# EAGLE library part 687130 (library con-Wurth-6871)
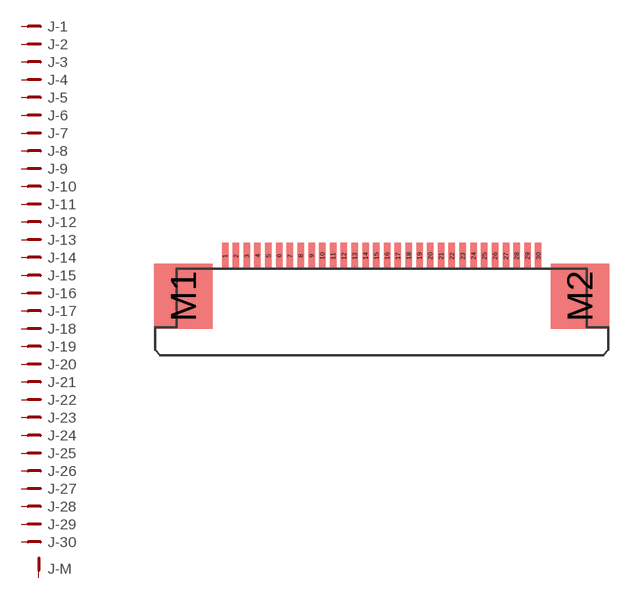
[diagram p0: symbol with the pads of 68713014022; footprint 68713014022]

Designator prefix J; gates -1=PIN -2=PIN -3=PIN -4=PIN -5=PIN -6=PIN -7=PIN -8=PIN -9=PIN -10=PIN -11=PIN -12=PIN -13=PIN -14=PIN -15=PIN -16=PIN -17=PIN -18=PIN -19=PIN -20=PIN -21=PIN -22=PIN -23=PIN -24=PIN -25=PIN -26=PIN -27=PIN -28=PIN -29=PIN -30=PIN -M=PIN-MECH

## 68713014022  [68713014022]
1  -1:1  pas
2  -2:1  pas
3  -3:1  pas
4  -4:1  pas
5  -5:1  pas
6  -6:1  pas
7  -7:1  pas
8  -8:1  pas
9  -9:1  pas
10  -10:1  pas
11  -11:1  pas
12  -12:1  pas
13  -13:1  pas
14  -14:1  pas
15  -15:1  pas
16  -16:1  pas
17  -17:1  pas
18  -18:1  pas
19  -19:1  pas
20  -20:1  pas
21  -21:1  pas
22  -22:1  pas
23  -23:1  pas
24  -24:1  pas
25  -25:1  pas
26  -26:1  pas
27  -27:1  pas
28  -28:1  pas
29  -29:1  pas
30  -30:1  pas
M1  -M:1  pas
M2  -M:1  pas

## Footprint 68713014022 (pad centres in mm)
smd 0.3 x 1.2: 1 -7.25,2.1; 2 -6.75,2.1; 3 -6.25,2.1; 4 -5.75,2.1; 5 -5.25,2.1; 6 -4.75,2.1; 7 -4.25,2.1; 8 -3.75,2.1; 9 -3.25,2.1; 10 -2.75,2.1; 11 -2.25,2.1; 12 -1.75,2.1; 13 -1.25,2.1; 14 -0.75,2.1; 15 -0.25,2.1; 16 0.25,2.1; 17 0.75,2.1; 18 1.25,2.1; 19 1.75,2.1; 20 2.25,2.1; 21 2.75,2.1; 22 3.25,2.1; 23 3.75,2.1; 24 4.25,2.1; 25 4.75,2.1; 26 5.25,2.1; 27 5.75,2.1; 28 6.25,2.1; 29 6.75,2.1; 30 7.25,2.1
smd 2.7 x 3: M1 -9.18,0.24; M2 9.18,0.24